# Altium schematic symbol library Smoorspoel.SchLib: 1 symbol
Pins are listed as number, name and electrical type; pins without a type are passive.

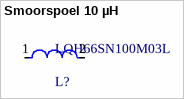
[diagram p0: symbol Smoorspoel 10 µH]

## Smoorspoel 10 µH
designator L?, comment LQH66SN100M03L
Test Frequency: 1MHz; Max DC Current: 1.6A; Inductance Tolerance: 20%; Core Material: Ferrite; Self Resonant Frequency: 20MHz; DC Resistance (DCR): 36mR; Inductance: 10uH; Shielding: Shielded; Radiation Hardening: No; Height: 4.7mm; Lead Free: Lead Free; Current Rating: 1.6A; Length: 0.248inch; REACH SVHC: No SVHC; Military Standard: Not; Max Operating Temperature: 80°C; Packaging: Tape and Reel; Height - Seated (Max): 0.197inch; Depth: 6.6mm; Width: 6.3mm; Package Quantity: 350; Case Code (Metric): 6363; Resistor Type: Wirewound; DC Current: 1.6A; Weight: 0.025045oz; Case/Package: 2525; Termination: SMD/SMT; Min Operating Temperature: -25°C; Tolerance: 20%; Case Code (Imperial): 2525; Mount: Surface Mount
footprint FP-LQH66SN_03-MFG
pins: 1, 2